# EAGLE library part GKPAD_06 (library 029000100  -  gKEagleLibrary)
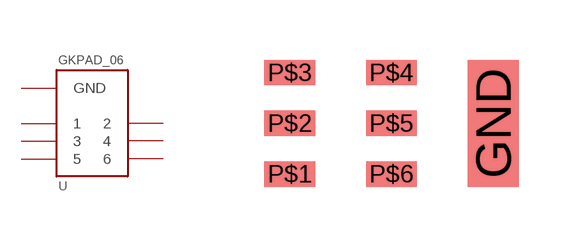
[diagram p6: symbol with the pads of GKPAD_06; footprint GKPAD_06]

Designator prefix -

## GKPAD_06  [GKPAD_06]
GND  GND  pwr
P$1  1
P$2  2
P$3  3
P$4  4
P$5  5
P$6  6

## Footprint GKPAD_06 (pad centres in mm)
smd 1.27 x 3.175: GND 5.08,2.54
smd 1.27 x 0.635: P$1 0,1.27; P$2 0,2.54; P$3 0,3.81; P$4 2.54,3.81; P$5 2.54,2.54; P$6 2.54,1.27